# Altium footprint library Alcetronics_Devices.PcbLib: 71 footprints (part 5 of 5)
Each footprint in its own frame and in the unit in brackets; x right, y up, seen from the top. Pads: shape width x height; smd on the part's side, far side on the other; paste and mask are expansions set on the pad; w line width, h text height; cw(c..) or ccw(c..) is an arc to the next point about the centre after c.
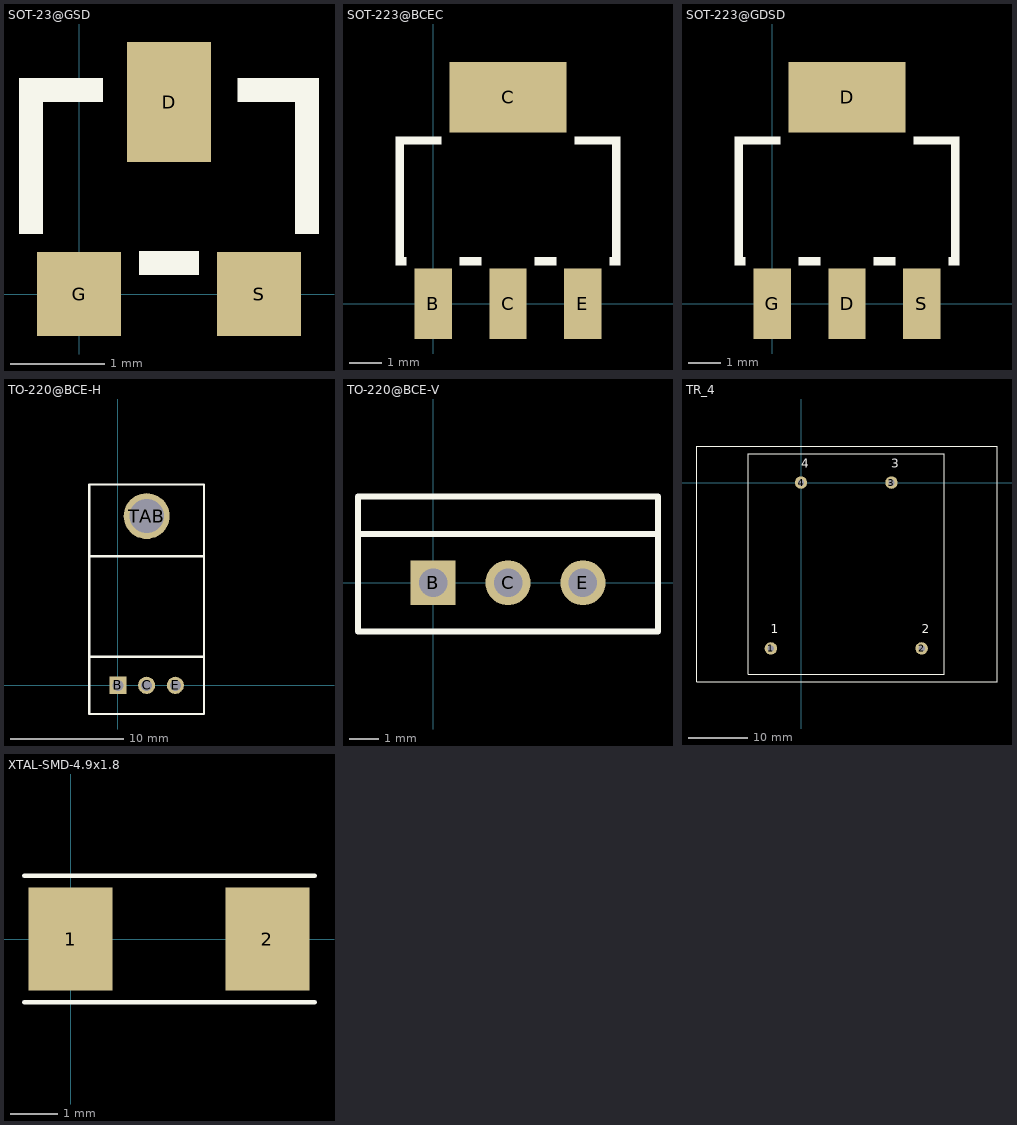
[diagram p4: the footprints below, top view; thin cyan lines are the x and y axes]

## SOT-23@GSD [mil] "SOT-23 (1-Gate , 2-Source, 3-Drain)"
pads (3):
  rect 35x50 smd: D(37.5,80)
  rect 35x35 smd: G(0,0) S(75,0)
Top Overlay:
  rectangle: -25,80 10,90
  rectangle: -25,25 -15,90
  rectangle: 66,80 100,90
  rectangle: 90,25 100,90
  rectangle: 25,8 50,18

## SOT-223@BCEC [mil] "Small Outline for Bipolar Transistor (1-B, 2-C, 3-E, 4-C)"
height 70.87
pads (4):
  rect 45x85 smd: B(0,0) C(90,0) E(180,0)
  rect 140x85 smd: C(90,248)
Top Overlay:
  rectangle: -45,191 10,201
  rectangle: 170,191 225,201
  rectangle: -45,46 -35,201
  rectangle: 215,46 225,201
  rectangle: -45,46 -32,56
  rectangle: 212,46 225,56
  rectangle: 32,46 58,56
  rectangle: 122,46 148,56

## SOT-223@GDSD [mil] "Small Outline for FET Transistor (1-G, 2-D, 3-S, 4-D)"
height 70.87
pads (4):
  rect 45x85 smd: D(90,0) G(0,0) S(180,0)
  rect 140x85 smd: D(90,248)
Top Overlay:
  rectangle: -45,191 10,201
  rectangle: 170,191 225,201
  rectangle: -45,46 -35,201
  rectangle: 215,46 225,201
  rectangle: -45,46 -32,56
  rectangle: 212,46 225,56
  rectangle: 32,46 58,56
  rectangle: 122,46 148,56

## TO-220@BCE-H [mil]
pads (4):
  rect 60x60 hole 38: B(0,0)
  round 60 hole 38: C(100,0) E(200,0)
  round 160 hole 120: TAB(100,590)
Top Overlay:
  lines w8: -100,450 300,450 ; -100,100 300,100 ; -100,100 -100,700 300,700 300,100 ; -100,100 -100,0 -100,-100 300,-100 300,100

## TO-220@BCE-V [mil]
pads (3):
  rect 60x60 hole 38: B(0,0)
  round 60 hole 38: C(100,0) E(200,0)
Top Overlay:
  lines w8: -100,65 300,65 ; -100,-65 300,-65 300,115 -100,115 -100,-65

## TR_4 [mil] "Transformer; 4 Leads"
pads (4):
  round 82 hole 42: 1(-200,-1100) 2(800,-1100) 3(600,0) 4(0,0)
Top Overlay:
  lines w8: -690,-1320 -690,240 1300,240 1300,-1320 -690,-1320 ; -350,-1270 950,-1270 950,190 -350,190 -350,-1270
  text "1" at -200,-1000 h59.06
  text "2" at 800,-1000 h59.06
  text "4" at 0,100 h59.06
  text "3" at 600,100 h59.06

## XTAL-SMD-4.9x1.8 [mm]
pads (2):
  rect 1.8x2.2 smd: 1(0,0) 2(4.2,0)
Top Overlay:
  lines w0.1: -0.991,-1.346 5.207,-1.346 ; -0.991,1.346 5.207,1.346